# Altium schematic symbol library WE-SCC.SchLib: 10 symbols
Pins are listed as number, name and electrical type; pins without a type are passive.

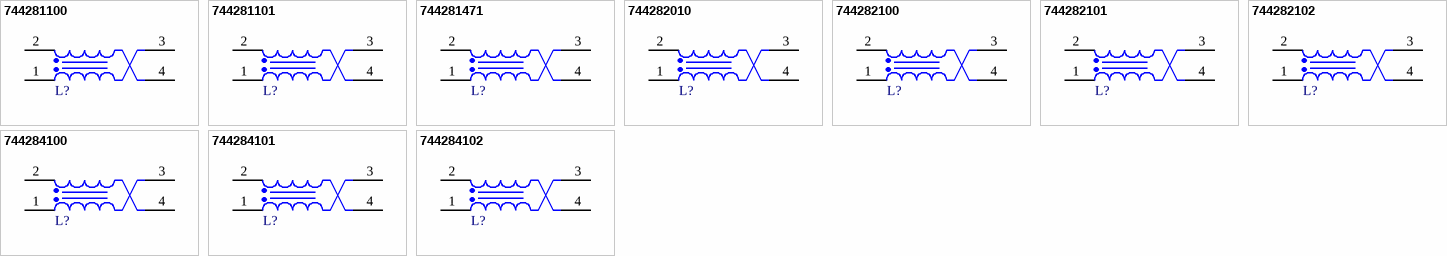
[diagram p0: symbols 744281100 to 744284102]

## 744281100
designator L?, comment 10uH  (value not drawn)
WE-SCC SMT Common Mode Line Filter, size 7345, 10uH, 10000Ohm, 80V; Manufacturer: Wurth Elektronik; Manufacturer Part Number: 744281100; Case/Size Code: 7345; DC Resistance Max: 0.12Ohm; Insulation Test Voltage: 250VAC; Rated Current: 1.1A; Winding Style: bifiliar; ComponentLink1Description: Manufacturer Link; ComponentLink1URL: https://www.we-online.com/redexpert/article/744281100?ad; ComponentLink2Description: Datasheet; ComponentLink2URL: https://www.we-online.com/redexpert/spec/744281100?ad; Category: Common Mode Chokes; Match Code: WE-SCC; Mount: Surface Mount; Operating Temperature Max: 125°C; Operating Temperature Min: -40°C; Packaging: Tape and Reel; Length: 7.3mm; Width: 7.3mm; Height: 4.8mm; Impedance Max: 10000Ohm; Inductance: 10uH; Rated Voltage: 80V
footprint WE-SCC_7345
pins: 1, 2, 3, 4

## 744281101
designator L?, comment 100uH  (value not drawn)
WE-SCC SMT Common Mode Line Filter, size 7345, 100uH, 50000Ohm, 80V; Manufacturer: Wurth Elektronik; Manufacturer Part Number: 744281101; Case/Size Code: 7345; DC Resistance Max: 0.95Ohm; Insulation Test Voltage: 250VAC; Rated Current: 0.35A; Winding Style: bifiliar; ComponentLink1Description: Manufacturer Link; ComponentLink1URL: https://www.we-online.com/redexpert/article/744281101?ad; ComponentLink2Description: Datasheet; ComponentLink2URL: https://www.we-online.com/redexpert/spec/744281101?ad; Category: Common Mode Chokes; Match Code: WE-SCC; Mount: Surface Mount; Operating Temperature Max: 125°C; Operating Temperature Min: -40°C; Packaging: Tape and Reel; Length: 7.3mm; Width: 7.3mm; Height: 4.8mm; Impedance Max: 50000Ohm; Inductance: 100uH; Rated Voltage: 80V
footprint WE-SCC_7345
pins: 1, 2, 3, 4

## 744281471
designator L?, comment 470uH  (value not drawn)
WE-SCC SMT Common Mode Line Filter, size 7345, 470uH, 100000Ohm, 80V; Manufacturer: Wurth Elektronik; Manufacturer Part Number: 744281471; Case/Size Code: 7345; DC Resistance Max: 4.3Ohm; Insulation Test Voltage: 250VAC; Rated Current: 0.15A; Winding Style: bifiliar; ComponentLink1Description: Manufacturer Link; ComponentLink1URL: https://www.we-online.com/redexpert/article/744281471?ad; ComponentLink2Description: Datasheet; ComponentLink2URL: https://www.we-online.com/redexpert/spec/744281471?ad; Category: Common Mode Chokes; Match Code: WE-SCC; Mount: Surface Mount; Operating Temperature Max: 125°C; Operating Temperature Min: -40°C; Packaging: Tape and Reel; Length: 7.3mm; Width: 7.3mm; Height: 4.8mm; Impedance Max: 100000Ohm; Inductance: 470uH; Rated Voltage: 80V
footprint WE-SCC_7345
pins: 1, 2, 3, 4

## 744282010
designator L?, comment 1uH  (value not drawn)
WE-SCC SMT Common Mode Line Filter, size 1260, 1uH, 1600Ohm, 80V; Manufacturer: Wurth Elektronik; Manufacturer Part Number: 744282010; Case/Size Code: 1260; DC Resistance Max: 0.01Ohm; Insulation Test Voltage: 250VAC; Rated Current: 4.75A; Winding Style: bifiliar; ComponentLink1Description: Manufacturer Link; ComponentLink1URL: https://www.we-online.com/redexpert/article/744282010?ad; ComponentLink2Description: Datasheet; ComponentLink2URL: https://www.we-online.com/redexpert/spec/744282010?ad; Category: Common Mode Chokes; Match Code: WE-SCC; Mount: Surface Mount; Operating Temperature Max: 125°C; Operating Temperature Min: -40°C; Packaging: Tape and Reel; Length: 12.5mm; Width: 12.5mm; Height: 6.5mm; Impedance Max: 1600Ohm; Inductance: 1uH; Rated Voltage: 80V
footprint WE-SCC_1260
pins: 1, 2, 3, 4

## 744282100
designator L?, comment 10uH  (value not drawn)
WE-SCC SMT Common Mode Line Filter, size 1260, 10uH, 9000Ohm, 80V; Manufacturer: Wurth Elektronik; Manufacturer Part Number: 744282100; Case/Size Code: 1260; DC Resistance Max: 0.05Ohm; Insulation Test Voltage: 250VAC; Rated Current: 2.25A; Winding Style: bifiliar; ComponentLink1Description: Manufacturer Link; ComponentLink1URL: https://www.we-online.com/redexpert/article/744282100?ad; ComponentLink2Description: Datasheet; ComponentLink2URL: https://www.we-online.com/redexpert/spec/744282100?ad; Category: Common Mode Chokes; Match Code: WE-SCC; Mount: Surface Mount; Operating Temperature Max: 125°C; Operating Temperature Min: -40°C; Packaging: Tape and Reel; Length: 12.5mm; Width: 12.5mm; Height: 6.5mm; Impedance Max: 9000Ohm; Inductance: 10uH; Rated Voltage: 80V
footprint WE-SCC_1260
pins: 1, 2, 3, 4

## 744282101
designator L?, comment 100uH  (value not drawn)
WE-SCC SMT Common Mode Line Filter, size 1260, 100uH, 40000Ohm, 80V; Manufacturer: Wurth Elektronik; Manufacturer Part Number: 744282101; Case/Size Code: 1260; DC Resistance Max: 0.28Ohm; Insulation Test Voltage: 250VAC; Rated Current: 0.9A; Winding Style: bifiliar; ComponentLink1Description: Manufacturer Link; ComponentLink1URL: https://www.we-online.com/redexpert/article/744282101?ad; ComponentLink2Description: Datasheet; ComponentLink2URL: https://www.we-online.com/redexpert/spec/744282101?ad; Category: Common Mode Chokes; Match Code: WE-SCC; Mount: Surface Mount; Operating Temperature Max: 125°C; Operating Temperature Min: -40°C; Packaging: Tape and Reel; Length: 12.5mm; Width: 12.5mm; Height: 6.5mm; Impedance Max: 40000Ohm; Inductance: 100uH; Rated Voltage: 80V
footprint WE-SCC_1260
pins: 1, 2, 3, 4

## 744282102
designator L?, comment 1000uH  (value not drawn)
WE-SCC SMT Common Mode Line Filter, size 1260, 1000uH, 160000Ohm, 80V; Manufacturer: Wurth Elektronik; Manufacturer Part Number: 744282102; Case/Size Code: 1260; DC Resistance Max: 2.8Ohm; Insulation Test Voltage: 250VAC; Rated Current: 0.25A; Winding Style: bifiliar; ComponentLink1Description: Manufacturer Link; ComponentLink1URL: https://www.we-online.com/redexpert/article/744282102?ad; ComponentLink2Description: Datasheet; ComponentLink2URL: https://www.we-online.com/redexpert/spec/744282102?ad; Category: Common Mode Chokes; Match Code: WE-SCC; Mount: Surface Mount; Operating Temperature Max: 125°C; Operating Temperature Min: -40°C; Packaging: Tape and Reel; Length: 12.5mm; Width: 12.5mm; Height: 6.5mm; Impedance Max: 160000Ohm; Inductance: 1000uH; Rated Voltage: 80V
footprint WE-SCC_1260
pins: 1, 2, 3, 4

## 744284100
designator L?, comment 10uH  (value not drawn)
WE-SCC SMT Common Mode Line Filter, size 1210, 10uH, 10000Ohm, 80V; Manufacturer: Wurth Elektronik; Manufacturer Part Number: 744284100; Case/Size Code: 1210; DC Resistance Max: 0.04Ohm; Insulation Test Voltage: 250VAC; Rated Current: 2.75A; Winding Style: bifiliar; ComponentLink1Description: Manufacturer Link; ComponentLink1URL: https://www.we-online.com/redexpert/article/744284100?ad; ComponentLink2Description: Datasheet; ComponentLink2URL: https://www.we-online.com/redexpert/spec/744284100?ad; Category: Common Mode Chokes; Match Code: WE-SCC; Mount: Surface Mount; Operating Temperature Max: 125°C; Operating Temperature Min: -40°C; Packaging: Tape and Reel; Length: 12.5mm; Width: 12.5mm; Height: 10.5mm; Impedance Max: 10000Ohm; Inductance: 10uH; Rated Voltage: 80V
footprint WE-SCC_1210
pins: 1, 2, 3, 4

## 744284101
designator L?, comment 100uH  (value not drawn)
WE-SCC SMT Common Mode Line Filter, size 1210, 100uH, 40000Ohm, 80V; Manufacturer: Wurth Elektronik; Manufacturer Part Number: 744284101; Case/Size Code: 1210; DC Resistance Max: 0.28Ohm; Insulation Test Voltage: 250VAC; Rated Current: 1A; Winding Style: bifiliar; ComponentLink1Description: Manufacturer Link; ComponentLink1URL: https://www.we-online.com/redexpert/article/744284101?ad; ComponentLink2Description: Datasheet; ComponentLink2URL: https://www.we-online.com/redexpert/spec/744284101?ad; Category: Common Mode Chokes; Match Code: WE-SCC; Mount: Surface Mount; Operating Temperature Max: 125°C; Operating Temperature Min: -40°C; Packaging: Tape and Reel; Length: 12.5mm; Width: 12.5mm; Height: 10.5mm; Impedance Max: 40000Ohm; Inductance: 100uH; Rated Voltage: 80V
footprint WE-SCC_1210
pins: 1, 2, 3, 4

## 744284102
designator L?, comment 1000uH  (value not drawn)
WE-SCC SMT Common Mode Line Filter, size 1210, 1000uH, 160000Ohm, 80V; Manufacturer: Wurth Elektronik; Manufacturer Part Number: 744284102; Case/Size Code: 1210; DC Resistance Max: 2.5Ohm; Insulation Test Voltage: 250VAC; Rated Current: 0.3A; Winding Style: bifiliar; ComponentLink1Description: Manufacturer Link; ComponentLink1URL: https://www.we-online.com/redexpert/article/744284102?ad; ComponentLink2Description: Datasheet; ComponentLink2URL: https://www.we-online.com/redexpert/spec/744284102?ad; Category: Common Mode Chokes; Match Code: WE-SCC; Mount: Surface Mount; Operating Temperature Max: 125°C; Operating Temperature Min: -40°C; Packaging: Tape and Reel; Length: 12.5mm; Width: 12.5mm; Height: 10.5mm; Impedance Max: 160000Ohm; Inductance: 1000uH; Rated Voltage: 80V
footprint WE-SCC_1210
pins: 1, 2, 3, 4